# Altium schematic symbol library Generic Passive Components.SchLib: 5 symbols
Pins are listed as number, name and electrical type; pins without a type are passive.

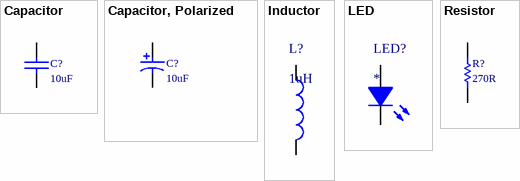
[diagram p0: symbols Capacitor to Resistor]

## Capacitor
designator C?, comment 10uF
Generic Capacitor
pins: 1, 2

## Capacitor, Polarized
designator C?, comment 10uF
Generic Capacitor
pins: 1, 2

## Inductor
designator L?, comment 1uH
Generic Inductor
pins: 1, 2

## LED
designator LED?
Generic LED
pins: 1 A, 2 K

## Resistor
designator R?, comment 270R
Generic Resistor
pins: 1, 2